# Altium footprint library RGBLED.PcbLib: 9 footprints
Each footprint in its own frame and in the unit in brackets; x right, y up, seen from the top. Pads: shape width x height; smd on the part's side, far side on the other; paste and mask are expansions set on the pad; w line width, h text height; cw(c..) or ccw(c..) is an arc to the next point about the centre after c.
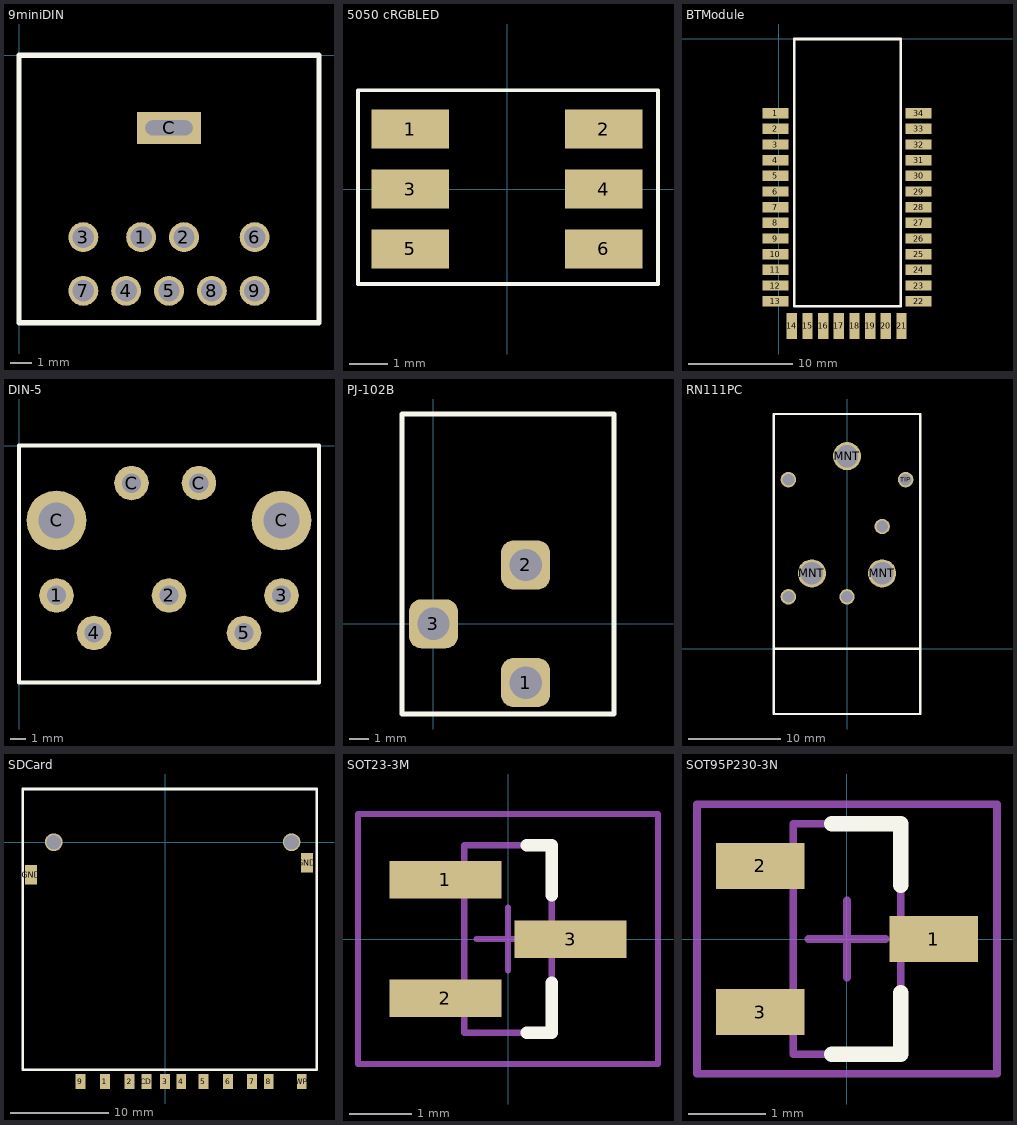
[diagram p0: the footprints below, top view; thin cyan lines are the x and y axes]

## 9miniDIN [mm] "CUI Inc. MD-90S"
height 12.9
pads (10):
  round 1.4 hole 1: 1(5.7,-8.5) 2(7.7,-8.5) 3(3,-8.5) 4(5,-11) 5(7,-11) 6(11,-8.5) 7(3,-11) 8(9,-11) 9(11,-11)
  rect 3x1.5 hole 2.2 slot 0.7 at 90 deg: C(7,-3.4)
Top Overlay:
  lines w0.254: 0,-12.5 0,0 14,0 14,-12.5 0,-12.5

## 5050 cRGBLED [mm] "5050 RGBLED"
height 1.6
pads (6):
  rect 2x1 smd: 1(-2.5,1.55) 2(2.5,1.55) 3(-2.5,0) 4(2.5,0) 5(-2.5,-1.55) 6(2.5,-1.55)
Top Overlay:
  lines w0.1: -3.85,-2.45 3.9,-2.45 3.9,2.55 -3.85,2.55 -3.85,-2.45

## BTModule [mm] "HC-07 Bluetooth UART"
pads (34):
  rect 2.5x1 smd: 1(-0.3,-7.1) 2(-0.3,-8.6) 3(-0.3,-10.1) 4(-0.3,-11.6) 5(-0.3,-13.1) 6(-0.3,-14.6) 7(-0.3,-16.1) 8(-0.3,-17.6) 9(-0.3,-19.1) 10(-0.3,-20.6) 11(-0.3,-22.1) 12(-0.3,-23.6) 13(-0.3,-25.1) 22(13.4,-25.1) 23(13.4,-23.6) 24(13.4,-22.1) 25(13.4,-20.6) 26(13.4,-19.1) 27(13.4,-17.6) 28(13.4,-16.1) 29(13.4,-14.6) 30(13.4,-13.1) 31(13.4,-11.6) 32(13.4,-10.1) 33(13.4,-8.6) 34(13.4,-7.1)
  rect 1x2.5 smd: 14(1.27,-27.47) 15(2.77,-27.47) 16(4.27,-27.47) 17(5.77,-27.47) 18(7.27,-27.47) 19(8.77,-27.47) 20(10.27,-27.47) 21(11.77,-27.47)
Top Overlay:
  lines w0.254: 1.5,-25.6 1.5,0 11.7,0 11.7,-25.6 1.5,-25.6

## DIN-5 [mm] "CUI Inc. SDS-50J"
height 21.1
pads (9):
  round 2.3 hole 1.3: 1(2.5,-10) 2(10,-10) 3(17.5,-10) 4(5,-12.5) 5(15,-12.5) C(7.5,-2.5) C(12,-2.5)
  round 4 hole 2.4: C(2.5,-5) C(17.5,-5)
Top Overlay:
  lines w0.254: 0,-15.8 20,-15.8 20,0 0,0 0,-15.8

## PJ-102B [mm] "CUI Inc. PJ-102B"
pads (3):
  rrect50% 2.5x2.5 hole 1.65 square: 1(4.7,-3) 2(4.7,3) 3(0,0)
Top Overlay:
  lines w0.254: -1.6,-4.6 -1.6,10.7 9.2,10.7 9.2,-4.6 -1.6,-4.6

## RN111PC [mil] "Switchcraft RN-111PC"
pads (8):
  round 120 hole 95: MNT(-150,322) MNT(0,822) MNT(150,322)
  round 66 hole 50: RING(-250,222) RING_SH(-250,722) SLEEVE(0,222) TIP(250,722) TIP_SH(150,522)
Top Overlay:
  lines w10: -312.5,0 310.09,0 ; -312.5,-278 -312.5,1002 312.5,1002 312.5,-278 -312.5,-278

## SDCard [mm] "101-00313 SD SMD Push Type"
pads (15):
  rect 1x1.5 smd: 1(-6.1,-24.31) 2(-3.6,-24.31) 3(0,-24.31) 4(1.65,-24.31) 5(3.9,-24.31) 6(6.4,-24.31) 7(8.83,-24.31) 8(10.53,-24.31) 9(-8.6,-24.31) CD(-1.9,-24.31) WP(13.88,-24.31)
  rect 1.2x2 smd: GND(-13.6,-3.3) GND(14.4,-2.1)
  round 1.8 hole 1.5: ""(-11.3,0) ""(12.85,0)
Top Overlay:
  lines w0.254: -14.45,-23.1 -14.45,5.4 15.4,5.4 15.4,-23.1 -14.45,-23.1

## SOT23-3M [mm] "SOT23, 3-Leads, Body 2.9x1.3mm, Pitch 0.95mm, Lead Span 2.5mm, IPC Low Density"
height 1.1
pads (3):
  rect 1.8x0.6 smd: 1(-1,0.95) 2(-1,-0.95) 3(1,0)
Top Overlay:
  lines w0.2: 0.3,-1.5 0.7,-1.5 0.7,-0.7 ; 0.3,1.5 0.7,1.5 0.7,0.7
Mechanical 13:
  lines w0.1: -0.7,-1.5 0.7,-1.5 0.7,1.5 -0.7,1.5 -0.7,-1.5
Mechanical 15:
  lines w0.1: -0.5,0 0.5,0 ; 0,-0.5 0,0.5 ; -2.4,-2 2.4,-2 2.4,2 -2.4,2 -2.4,-2
3D body: height 1.1, standoff 0, extent -0.7,-1.5 0.7,1.5

## SOT95P230-3N [mm] "SOT23, 3-Leads, Body 2.9x1.3mm, Pitch 0.95mm, Lead Span 2.3mm - Alternate Lead Configuration, IPC Medium Density"
height 1.1
pads (3):
  rect 1.15x0.6 smd: 1(1.125,0) 2(-1.125,0.95) 3(-1.125,-0.95)
Top Overlay:
  lines w0.2: -0.2,-1.5 0.7,-1.5 0.7,-0.7 ; -0.2,1.5 0.7,1.5 0.7,0.7
Mechanical 13:
  lines w0.1: -0.7,-1.5 -0.7,1.5 0.7,1.5 0.7,-1.5 -0.7,-1.5
Mechanical 15:
  lines w0.1: -0.5,0 0.5,0 ; 0,-0.5 0,0.5 ; -1.95,-1.75 -1.95,1.75 1.95,1.75 1.95,-1.75 -1.95,-1.75
3D body: height 1.1, standoff 0, extent -0.7,-1.5 0.7,1.5